# EAGLE library part MCP7940M-I/SN (library IC)
IC RTC CLK/CALENDAR I2C 8-SOIC Manufacturer's datasheet <http://ww1.microchip.com/downloads/en/DeviceDoc/MCP7940M-Low-Cost%20I2C-RTCC-with-SRAM-20002292C.pdf>
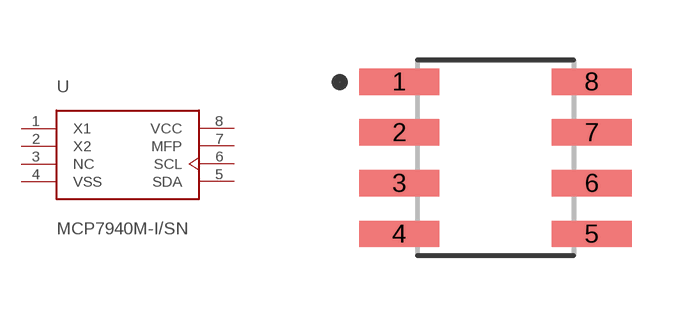
[diagram p19: symbol with the pads of SOIC-8; footprint SOIC-8]

Designator prefix U

## MCP7940M-I/SN (CREATED_BY: PCBLayout.com; DIGIKEY_PART_NUMBER: MCP7940M-I/SN-ND; MANUFACTURER: Microchip Technology; MPN: MCP7940M-I/SN; PACKAGE: SOIC-8)  [SOIC-8]
1  X1  in
2  X2  out
3  NC  pas
4  VSS  pwr
5  SDA
6  SCL  in
7  MFP
8  VCC  pwr

## Footprint SOIC-8 (pad centres in mm)
smd 2 x 0.66: 1 -2.405,1.905; 2 -2.405,0.635; 3 -2.405,-0.635; 4 -2.405,-1.905; 5 2.405,-1.905; 6 2.405,-0.635; 7 2.405,0.635; 8 2.405,1.905